# Altium schematic symbol library APX803S-26SA-7.Schlib: 1 symbol
Pins are listed as number, name and electrical type; pins without a type are passive.

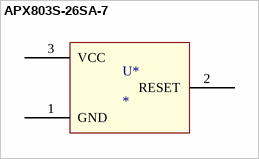
[diagram p0: symbol APX803S-26SA-7]

## APX803S-26SA-7
designator U*
SOT-23(SOT-23-3) Microprocessor & Microcontroller Supervisors RoHS; ComponentLink1Description: LCSC - Diodes Incorporated APX803S-26SA-7; ComponentLink1URL: https://lcsc.com/product-detail/Monitors-Reset-Circuits_Diodes-Incorporated-APX803S-26SA-7_C526393.html; LCSC Part #: C526393; JLCPCB Part type: Extended
footprint SOT23-3
pins: 1 GND, 2 RESET, 3 VCC